# EAGLE library part RGB (library rgb)
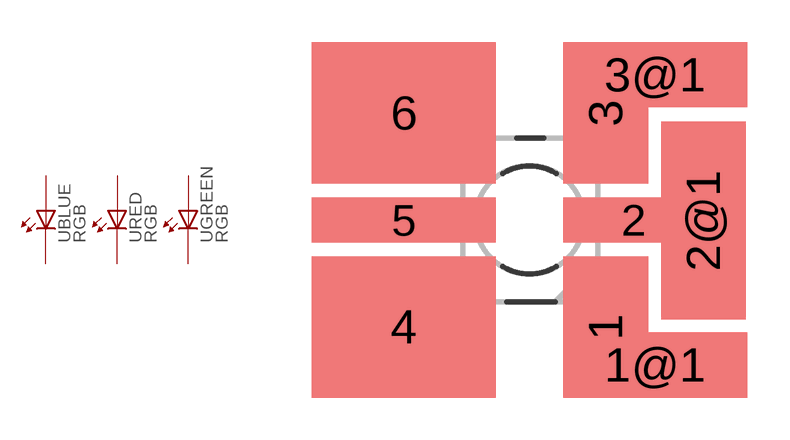
[diagram p0: symbol with the pads of PLCC6; footprint PLCC6]

Designator prefix -; gates BLUE=RGB RED=RGB GREEN=RGB

## RGB  [PLCC6]
1  BLUE:A
2  RED:A
3  GREEN:A
4  BLUE:K
5  RED:K
6  GREEN:K

## Footprint PLCC6 (pad centres in mm)
smd 3 x 5: 1 2.692,-3.786; 3 2.692,3.786
smd 6.5 x 2.3: 1@1 4.442,-5.136; 3@1 4.442,5.136
smd 5 x 1.6: 2 3.692,0
smd 3 x 7: 2@1 6.15,-0.025
smd 6.5 x 5: 4 -4.442,-3.786; 6 -4.442,3.786
smd 6.5 x 1.6: 5 -4.442,0